# Altium footprint library DFN.PcbLib: 4 footprints
Each footprint in its own frame and in the unit in brackets; x right, y up, seen from the top. Pads: shape width x height; smd on the part's side, far side on the other; paste and mask are expansions set on the pad; w line width, h text height; cw(c..) or ccw(c..) is an arc to the next point about the centre after c.
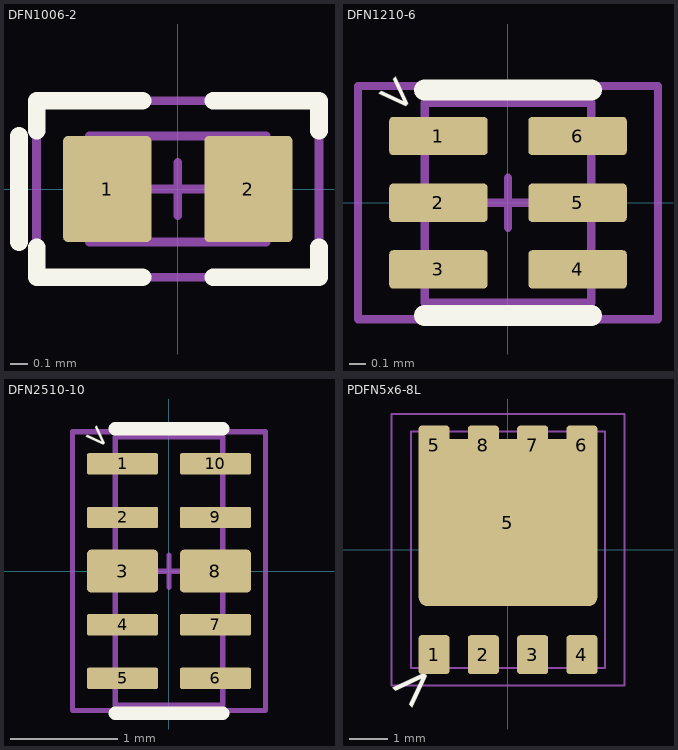
[diagram p0: the footprints below, top view; thin cyan lines are the x and y axes]

## DFN1006-2 [mm]
pads (2):
  rrect10% 0.5x0.6 smd mask+0.05: 1(-0.4,0) 2(0.4,0)
Top Overlay:
  lines w0.1: -0.9,-0.3 -0.9,0.3 ; -0.8,-0.329 -0.8,-0.5 -0.2,-0.5 ; -0.8,0.329 -0.8,0.5 -0.2,0.5 ; 0.2,-0.5 0.8,-0.5 0.8,-0.33 ; 0.2,0.5 0.8,0.5 0.8,0.33
Top Assembly:
  lines w0.05: -0.5,-0.3 0.5,-0.3 0.5,0.3 -0.5,0.3 -0.5,-0.3
Top Courtyard:
  lines w0.05: -0.8,-0.5 0.8,-0.5 0.8,0.5 -0.8,0.5 -0.8,-0.5
Top Component Center:
  lines w0.05: -0.15,0 0.15,0 ; 0,-0.15 0,0.15
3D body "User Library-DFN1006-2.STEP": height 0.48, standoff -0.02, extent -0.5,-0.3 0.5,0.3

## DFN1210-6 [mm]
pads (6):
  rrect20% 0.59x0.23 smd mask+0.05: 1(-0.418,0.4) 2(-0.418,0) 3(-0.418,-0.4) 4(0.418,-0.4) 5(0.418,0) 6(0.418,0.4)
Top Overlay:
  lines w0.127: -0.5,-0.676 0.5,-0.676 ; -0.5,0.676 0.5,0.676
  text ">" at -0.806,0.665 h0.2
Top Assembly:
  lines w0.05: -0.5,-0.6 -0.5,0.6 0.5,0.6 0.5,-0.6 -0.5,-0.6
Top Courtyard:
  lines w0.05: -0.9,-0.7 0.9,-0.7 0.9,0.7 -0.9,0.7 -0.9,-0.7
Top Component Center:
  lines w0.05: -0.15,0 0.15,0 ; 0,-0.15 0,0.15
3D body "User Library-SLP1210N6.STEP": height 0.65, standoff 0, extent -0.553,-0.65 0.553,0.65

## DFN2510-10 [mm]
pads (10):
  rrect20% 0.665x0.2 smd mask+0.05: 1(-0.433,1) 2(-0.433,0.5) 4(-0.433,-0.5) 5(-0.433,-1) 6(0.433,-1) 7(0.433,-0.5) 9(0.433,0.5) 10(0.433,1)
  rrect20% 0.665x0.4 smd mask+0.05: 3(-0.433,0) 8(0.433,0)
Top Overlay:
  lines w0.127: -0.5,-1.326 0.5,-1.326 ; -0.5,1.326 0.5,1.326
  text ">" at -0.806,1.265 h0.2
Top Assembly:
  lines w0.05: -0.5,-1.25 0.5,-1.25 0.5,1.25 -0.5,1.25 -0.5,-1.25
Top Courtyard:
  lines w0.05: -0.9,-1.3 0.9,-1.3 0.9,1.3 -0.9,1.3 -0.9,-1.3
Top Component Center:
  lines w0.05: -0.15,0 0.15,0 ; 0,-0.15 0,0.15
3D body "User Library-DFN2510-10.STEP": height 0.62, standoff 0.01, extent -0.5,-1.25 0.5,1.25

## PDFN5x6-8L [mm]
height 2.39
pads (9):
  rrect20% 0.8x1 smd mask+0.05: 1(-1.905,-2.7) 2(-0.635,-2.7) 3(0.635,-2.7) 4(1.905,-2.7) 5(-1.905,2.7) 6(1.905,2.7) 7(0.635,2.7) 8(-0.635,2.7)
  rrect10% 4.6x4.3 smd mask+0.05: 5(0,0.7)
Top Overlay:
  text ">" at -2.523,-4.23 h1
Top Assembly:
  lines w0.05: -2.5,-3.05 2.5,-3.05 2.5,3.05 -2.5,3.05 -2.5,-3.05
Top Courtyard:
  lines w0.05: -3,-3.5 3,-3.5 3,3.5 -3,3.5 -3,-3.5
Top Component Center:
  lines w0.05: -0.15,0 0.15,0 ; 0,-0.15 0,0.15
3D body "DFN-8 6x5.step": height 1, standoff 0, extent -2.5,-3.05 2.5,3.05